# Altium schematic symbol library LT3479EFE.Schlib: 1 symbol
Pins are listed as number, name and electrical type; pins without a type are passive.

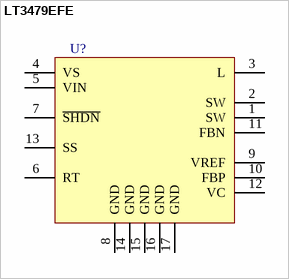
[diagram p0: symbol LT3479EFE]

## LT3479EFE
designator U?
2.5V TO 24V, 3A Boost Converter
pins: 1 SW, 2 SW, 3 L, 4 VS, 5 VIN, 6 RT, 7 ~{SHDN}, 8 GND, 9 VREF, 10 FBP, 11 FBN, 12 VC, 13 SS, 14 GND, 15 GND, 16 GND, 17 GND